# EAGLE library part NL6EBX-L2-* (library relay)
6PDT FLATPACK 2AMP DIL RELAY NAiS 2 coil latching Source: http://www.mew-europe.com/.. en_ds_61014_0003.pdf
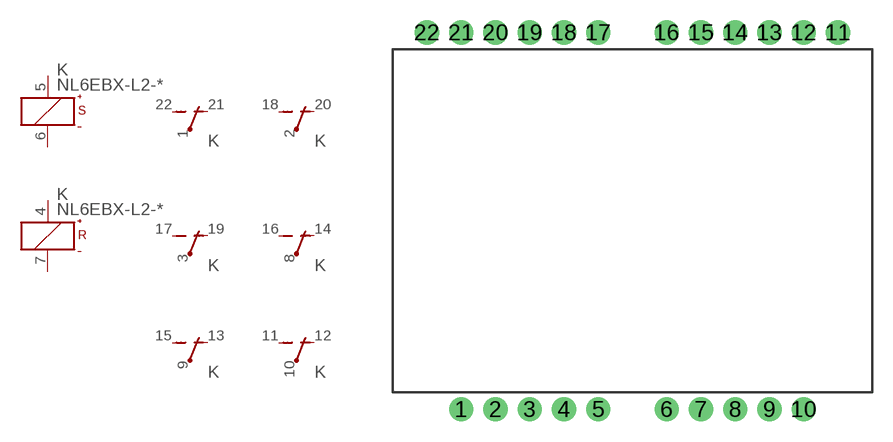
[diagram p69: symbol with the pads of NL6EBX-L2; footprint NL6EBX-L2]

Designator prefix K; gates S=K+-S R=K+-R 1=U 2=U 3=U 4=U 5=U 6=U

## NL6EBX-L2-DC110V (OC_FARNELL: unknown; OC_NEWARK: unknown), NL6EBX-L2-DC12V (OC_FARNELL: unknown; OC_NEWARK: unknown), NL6EBX-L2-DC24V (OC_FARNELL: unknown; OC_NEWARK: unknown), NL6EBX-L2-DC48V (OC_FARNELL: unknown; OC_NEWARK: unknown), NL6EBX-L2-DC5V (OC_FARNELL: unknown; OC_NEWARK: unknown), NL6EBX-L2-DC60V (OC_FARNELL: unknown; OC_NEWARK: unknown), NL6EBX-L2-DC6V (OC_FARNELL: unknown; OC_NEWARK: unknown)  [NL6EBX-L2]
1  1:P  pas
2  2:P  pas
3  3:P  pas
4  R:+  pas
5  S:+  pas
6  S:-  pas
7  R:-  pas
8  4:P  pas
9  5:P  pas
10  6:P  pas
11  6:S  pas
12  6:O  pas
13  5:O  pas
14  4:O  pas
15  5:S  pas
16  4:S  pas
17  3:S  pas
18  2:S  pas
19  3:O  pas
20  2:O  pas
21  1:O  pas
22  1:S  pas

## Footprint NL6EBX-L2 (pad centres in mm)
6PDT FLATPACK 2AMP DIL RELAY NAiS 2 coil latching Source: http://www.mew-europe.com/.. en_ds_61014_0003.pdf
drill 1.2: 1 -12.7,-13.97; 2 -10.16,-13.97; 3 -7.62,-13.97; 4 -5.08,-13.97; 5 -2.54,-13.97; 6 2.54,-13.97; 7 5.08,-13.97; 8 7.62,-13.97; 9 10.16,-13.97; 10 12.7,-13.97; 11 15.24,13.97; 12 12.7,13.97; 13 10.16,13.97; 14 7.62,13.97; 15 5.08,13.97; 16 2.54,13.97; 17 -2.54,13.97; 18 -5.08,13.97; 19 -7.62,13.97; 20 -10.16,13.97; 21 -12.7,13.97; 22 -15.24,13.97